# Altium schematic symbol library Converter_DCDC.SchLib: 947 symbols (part 12 of 12)
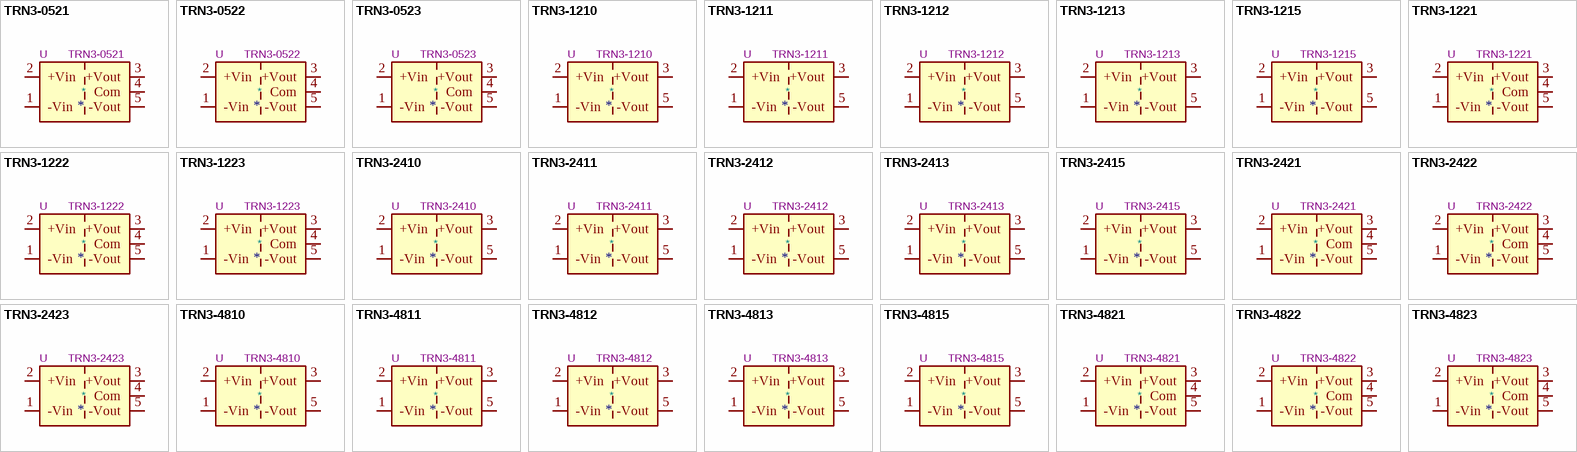
[diagram p34: symbols TRN3-0521 to TRN3-4823]

## TRN3-2421
designator *  value TRN3-2421  Reference: U
3W DC/DC converter regulated, 18-36V input, ±5V fixed output voltage, 300mA each output, 1.6kVDC isolation, SIP-5; ki_keywords: Traco isolated dual; ki_fp_filters: Converter*DCDC*TRACO*TRN3*xx2x*Dual*THT*; Footprint: Converter_DCDC:Converter_DCDC_TRACO_TRN3-xx2x_Dual_THT; Datasheet: https://www.tracopower.com/products/trn3.pdf; Description_: 3W DC/DC converter regulated, 18-36V input, ±5V fixed output voltage, 300mA each output, 1.6kVDC isolation, SIP-5
pins: 1 -Vin, 2 +Vin, 3 +Vout, 4 Com, 5 -Vout

## TRN3-2422
designator *  value TRN3-2422  Reference: U
3W DC/DC converter regulated, 18-36V input, ±12V fixed output voltage, 125mA each output, 1.6kVDC isolation, SIP-5; ki_keywords: Traco isolated dual; ki_fp_filters: Converter*DCDC*TRACO*TRN3*xx2x*Dual*THT*; Footprint: Converter_DCDC:Converter_DCDC_TRACO_TRN3-xx2x_Dual_THT; Datasheet: https://www.tracopower.com/products/trn3.pdf; Description_: 3W DC/DC converter regulated, 18-36V input, ±12V fixed output voltage, 125mA each output, 1.6kVDC isolation, SIP-5
pins: 1 -Vin, 2 +Vin, 3 +Vout, 4 Com, 5 -Vout

## TRN3-2423
designator *  value TRN3-2423  Reference: U
3W DC/DC converter regulated, 18-36V input, ±15V fixed output voltage, 100mA each output, 1.6kVDC isolation, SIP-5; ki_keywords: Traco isolated dual; ki_fp_filters: Converter*DCDC*TRACO*TRN3*xx2x*Dual*THT*; Footprint: Converter_DCDC:Converter_DCDC_TRACO_TRN3-xx2x_Dual_THT; Datasheet: https://www.tracopower.com/products/trn3.pdf; Description_: 3W DC/DC converter regulated, 18-36V input, ±15V fixed output voltage, 100mA each output, 1.6kVDC isolation, SIP-5
pins: 1 -Vin, 2 +Vin, 3 +Vout, 4 Com, 5 -Vout

## TRN3-4810
designator *  value TRN3-4810  Reference: U
3W DC/DC converter regulated, 36-75V input, 3.3V fixed output voltage, 700mA output, 1.6kVDC isolation, SIP-5; ki_keywords: Traco isolated single; ki_fp_filters: Converter*DCDC*TRACO*TRN3*xx1x*Single*THT*; Footprint: Converter_DCDC:Converter_DCDC_TRACO_TRN3-xx1x_Single_THT; Datasheet: https://www.tracopower.com/products/trn3.pdf; Description_: 3W DC/DC converter regulated, 36-75V input, 3.3V fixed output voltage, 700mA output, 1.6kVDC isolation, SIP-5
pins: 1 -Vin, 2 +Vin, 3 +Vout, 5 -Vout

## TRN3-4811
designator *  value TRN3-4811  Reference: U
3W DC/DC converter regulated, 36-75V input, 5V fixed output voltage, 600mA output, 1.6kVDC isolation, SIP-5; ki_keywords: Traco isolated single; ki_fp_filters: Converter*DCDC*TRACO*TRN3*xx1x*Single*THT*; Footprint: Converter_DCDC:Converter_DCDC_TRACO_TRN3-xx1x_Single_THT; Datasheet: https://www.tracopower.com/products/trn3.pdf; Description_: 3W DC/DC converter regulated, 36-75V input, 5V fixed output voltage, 600mA output, 1.6kVDC isolation, SIP-5
pins: 1 -Vin, 2 +Vin, 3 +Vout, 5 -Vout

## TRN3-4812
designator *  value TRN3-4812  Reference: U
3W DC/DC converter regulated, 36-75V input, 12V fixed output voltage, 250mA output, 1.6kVDC isolation, SIP-5; ki_keywords: Traco isolated single; ki_fp_filters: Converter*DCDC*TRACO*TRN3*xx1x*Single*THT*; Footprint: Converter_DCDC:Converter_DCDC_TRACO_TRN3-xx1x_Single_THT; Datasheet: https://www.tracopower.com/products/trn3.pdf; Description_: 3W DC/DC converter regulated, 36-75V input, 12V fixed output voltage, 250mA output, 1.6kVDC isolation, SIP-5
pins: 1 -Vin, 2 +Vin, 3 +Vout, 5 -Vout

## TRN3-4813
designator *  value TRN3-4813  Reference: U
3W DC/DC converter regulated, 36-75V input, 15V fixed output voltage, 200mA output, 1.6kVDC isolation, SIP-5; ki_keywords: Traco isolated single; ki_fp_filters: Converter*DCDC*TRACO*TRN3*xx1x*Single*THT*; Footprint: Converter_DCDC:Converter_DCDC_TRACO_TRN3-xx1x_Single_THT; Datasheet: https://www.tracopower.com/products/trn3.pdf; Description_: 3W DC/DC converter regulated, 36-75V input, 15V fixed output voltage, 200mA output, 1.6kVDC isolation, SIP-5
pins: 1 -Vin, 2 +Vin, 3 +Vout, 5 -Vout

## TRN3-4815
designator *  value TRN3-4815  Reference: U
3W DC/DC converter regulated, 36-75V input, 24V fixed output voltage, 125mA output, 1.6kVDC isolation, SIP-5; ki_keywords: Traco isolated single; ki_fp_filters: Converter*DCDC*TRACO*TRN3*xx1x*Single*THT*; Footprint: Converter_DCDC:Converter_DCDC_TRACO_TRN3-xx1x_Single_THT; Datasheet: https://www.tracopower.com/products/trn3.pdf; Description_: 3W DC/DC converter regulated, 36-75V input, 24V fixed output voltage, 125mA output, 1.6kVDC isolation, SIP-5
pins: 1 -Vin, 2 +Vin, 3 +Vout, 5 -Vout

## TRN3-4821
designator *  value TRN3-4821  Reference: U
3W DC/DC converter regulated, 36-75V input, ±5V fixed output voltage, 300mA each output, 1.6kVDC isolation, SIP-5; ki_keywords: Traco isolated dual; ki_fp_filters: Converter*DCDC*TRACO*TRN3*xx2x*Dual*THT*; Footprint: Converter_DCDC:Converter_DCDC_TRACO_TRN3-xx2x_Dual_THT; Datasheet: https://www.tracopower.com/products/trn3.pdf; Description_: 3W DC/DC converter regulated, 36-75V input, ±5V fixed output voltage, 300mA each output, 1.6kVDC isolation, SIP-5
pins: 1 -Vin, 2 +Vin, 3 +Vout, 4 Com, 5 -Vout

## TRN3-4822
designator *  value TRN3-4822  Reference: U
3W DC/DC converter regulated, 36-75V input, ±12V fixed output voltage, 125mA each output, 1.6kVDC isolation, SIP-5; ki_keywords: Traco isolated dual; ki_fp_filters: Converter*DCDC*TRACO*TRN3*xx2x*Dual*THT*; Footprint: Converter_DCDC:Converter_DCDC_TRACO_TRN3-xx2x_Dual_THT; Datasheet: https://www.tracopower.com/products/trn3.pdf; Description_: 3W DC/DC converter regulated, 36-75V input, ±12V fixed output voltage, 125mA each output, 1.6kVDC isolation, SIP-5
pins: 1 -Vin, 2 +Vin, 3 +Vout, 4 Com, 5 -Vout

## TRN3-4823
designator *  value TRN3-4823  Reference: U
3W DC/DC converter regulated, 36-75V input, ±15V fixed output voltage, 100mA each output, 1.6kVDC isolation, SIP-5; ki_keywords: Traco isolated dual; ki_fp_filters: Converter*DCDC*TRACO*TRN3*xx2x*Dual*THT*; Footprint: Converter_DCDC:Converter_DCDC_TRACO_TRN3-xx2x_Dual_THT; Datasheet: https://www.tracopower.com/products/trn3.pdf; Description_: 3W DC/DC converter regulated, 36-75V input, ±15V fixed output voltage, 100mA each output, 1.6kVDC isolation, SIP-5
pins: 1 -Vin, 2 +Vin, 3 +Vout, 4 Com, 5 -Vout